# EAGLE library part MOTADORA2014-PN (library motadora2011)
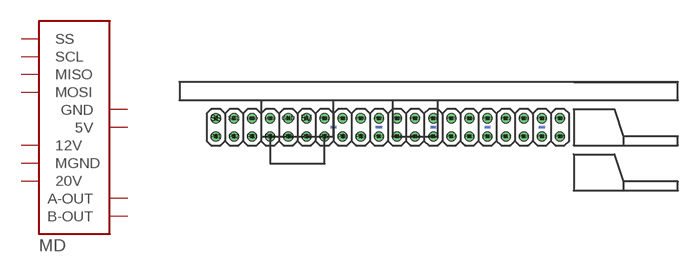
[diagram p3: symbol with the pads of MOTADORA2014-PN; footprint MOTADORA2014-PN]

Designator prefix MD

## MOTADORA2014-PN  [MOTADORA2014-PN]
5V  5V  pwr
12V  12V  pwr
20V  20V  pwr
A-OUT  A-OUT  out
B-OUT  B-OUT  out
GND  GND  pwr
MGND  MGND  pwr
MISO  MISO  in
MOSI  MOSI  in
SCL  SCL  in
SS  SS  in

## Footprint MOTADORA2014-PN (pad centres in mm)
drill 0.8: 5V -15.24,1.27; GND -17.78,1.27; MISO -22.86,1.27; MOSI -20.32,1.27; P$1 -27.94,-1.27; P$2 -25.4,-1.27; P$3 -22.86,-1.27; P$4 -20.32,-1.27; P$5 -17.78,-1.27; P$6 -15.24,-1.27; P$7 -12.7,-1.27; P$8 -10.16,-1.27; P$9 -7.62,-1.27; P$10 -5.08,-1.27; P$11 -2.54,-1.27; P$12 0,-1.27; P$13 2.54,-1.27; P$14 5.08,-1.27; P$15 7.62,-1.27; P$16 10.16,-1.27; P$17 12.7,-1.27; P$18 15.24,-1.27; P$19 17.78,-1.27; P$20 15.24,1.27; P$21 17.78,1.27; P$22 12.7,1.27; P$23 10.16,1.27; P$24 7.62,1.27; P$25 5.08,1.27; P$26 2.54,1.27; P$27 0,1.27; P$28 -2.54,1.27; P$29 -5.08,1.27; P$30 -7.62,1.27; P$31 -10.16,1.27; P$32 -12.7,1.27; P$33 20.32,1.27; P$36 20.32,-1.27; SCL -25.4,1.27; SS -27.94,1.27
smd 0.813 x 0.406 bottom: 12V -11.43,0; 20V 2.54,0; A-OUT 17.78,0; B-OUT 10.16,0; MGND -5.08,0